# Altium footprint library cSLIM-SA.PcbLib: 21 footprints (part 1 of 2)
Each footprint in its own frame and in the unit in brackets; x right, y up, seen from the top. Pads: shape width x height; smd on the part's side, far side on the other; paste and mask are expansions set on the pad; w line width, h text height; cw(c..) or ccw(c..) is an arc to the next point about the centre after c.
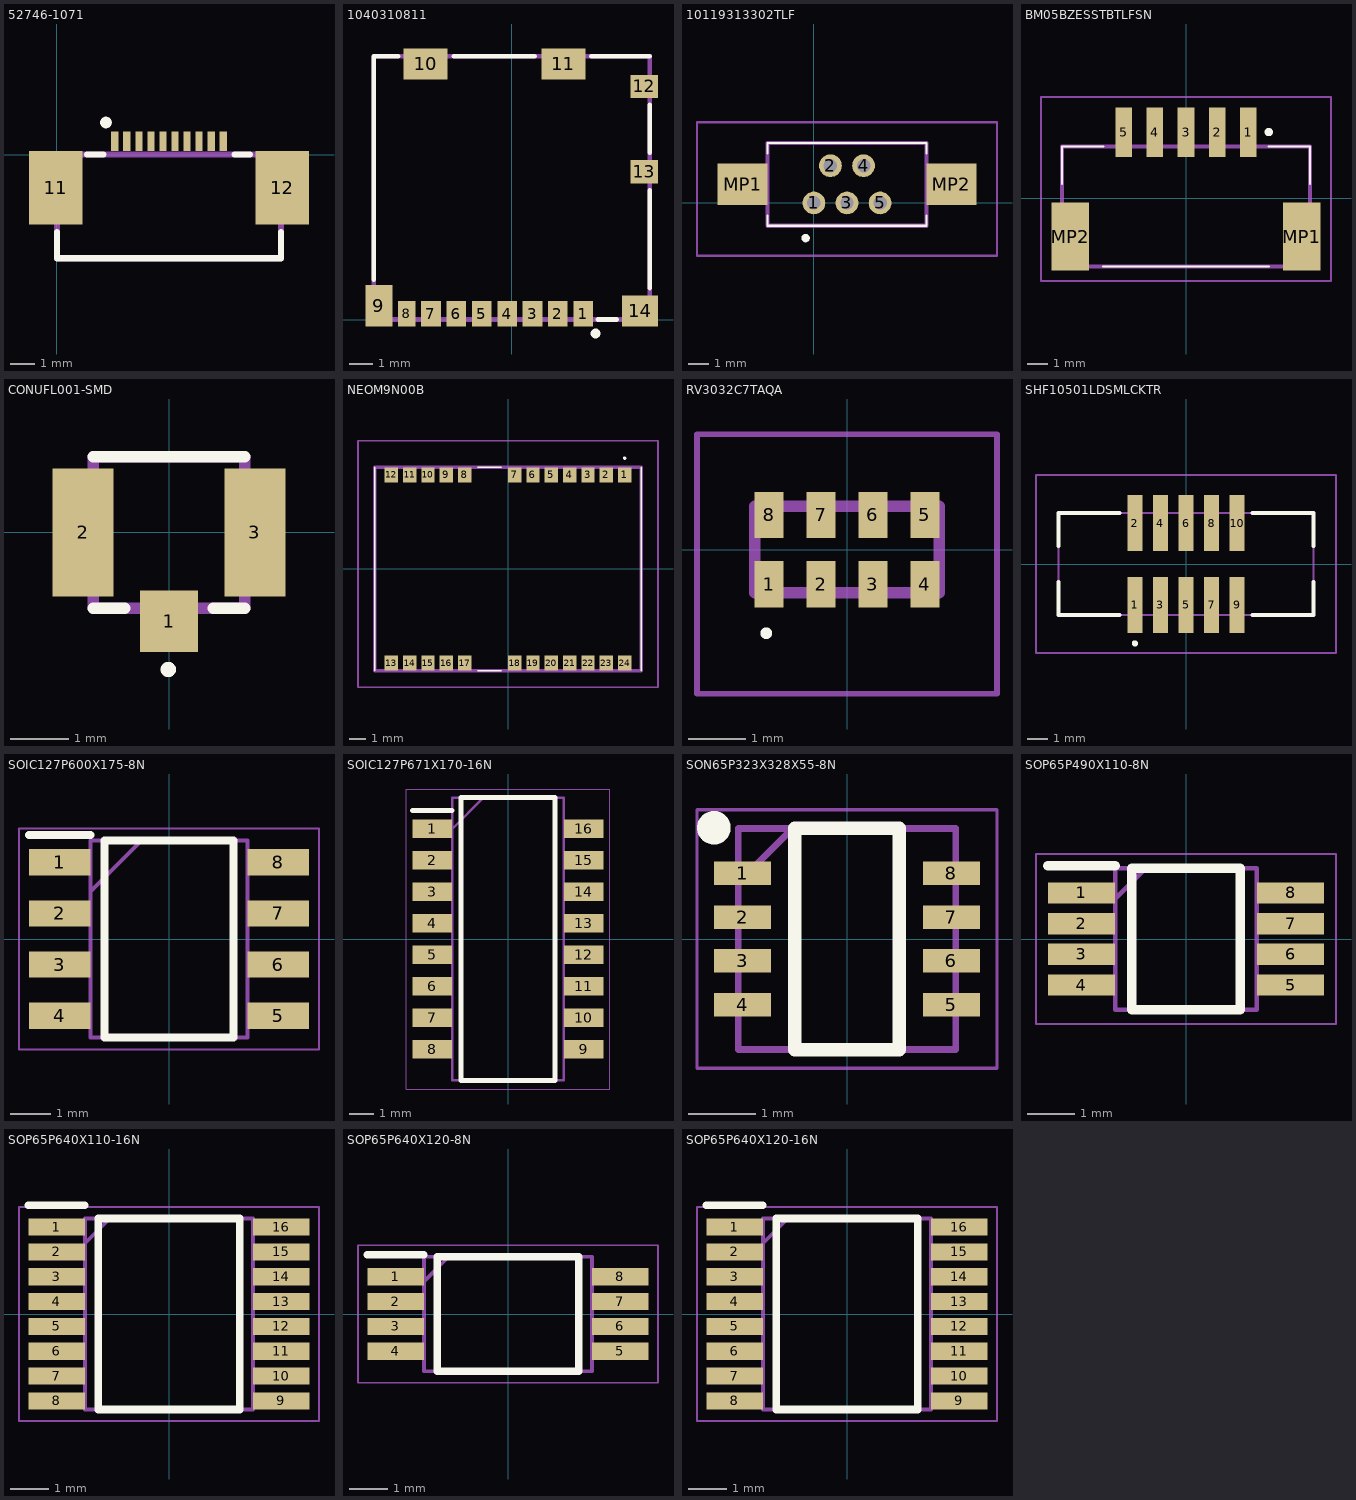
[diagram p0: the footprints below, top view; thin cyan lines are the x and y axes]

## 52746-1071 [mm]
pads (12):
  rect 0.3x0.8 smd: 1(2.4,0.556) 2(2.9,0.556) 3(3.4,0.556) 4(3.9,0.556) 5(4.4,0.556) 6(4.9,0.556) 7(5.4,0.556) 8(5.9,0.556) 9(6.4,0.556) 10(6.9,0.556)
  rect 2.2x3.05 smd: 11(-0.05,-1.369) 12(9.35,-1.369)
Top Overlay:
  circle w0.254: c2.035,1.331 r0.113
  lines w0.254: 0,-3.214 0,-4.3 9.3,-4.3 9.3,-3.214 ; 1.242,0 1.922,0 ; 7.374,0 8.011,0
Mechanical 13:
  lines w0.254: 0,-4.3 0,0 9.3,0 9.3,-4.3 0,-4.3
3D body "52746-1071.stp": height 2, standoff 0, extent -0.87,-5.9 10.23,0.7

## 1040310811 [mm]
pads (14):
  rect 0.85x1.1 smd: 1(3.105,0.25) 2(2.005,0.25) 3(0.905,0.25) 4(-0.195,0.25) 5(-1.295,0.25) 6(-2.395,0.25) 7(-3.495,0.25)
  rect 0.75x1.1 smd: 8(-4.545,0.25)
  rect 1.17x1.8 smd: 9(-5.755,0.6)
  rect 1.9x1.35 smd: 10(-3.73,11.075) 11(2.24,11.075)
  rect 1.2x1 smd: 12(5.74,10.1) 13(5.74,6.4)
  rect 1.55x1.35 smd: 14(5.565,0.375)
Top Overlay:
  circle w0.2: c3.634,-0.605 r0.113
  lines w0.2: -5.975,1.721 -5.975,11.4 -4.914,11.4 ; -2.5,11.4 1,11.4 ; 3.455,11.4 5.975,11.4 ; 3.739,0 4.56,0 ; 5.975,1.367 5.975,5.601 ; 5.975,7.216 5.975,9.297
Mechanical 13:
  lines w0.2: -5.975,0 5.975,0 5.975,11.4 -5.975,11.4 -5.975,0
3D body "104031-0811.stp": height 1.44, standoff -0.01, extent -5.875,0.117 6.075,11.517

## 10119313302TLF [mm]
pads (7):
  round 1.1 hole 0.65: 1(0,0) 2(0.8,1.8) 3(1.6,0) 4(2.4,1.8) 5(3.2,0)
  rect 2.4x2 smd: MP1(-3.45,0.9) MP2(6.65,0.9)
Top Overlay:
  lines w0.1: -2.25,-0.6 -2.25,-1.1 5.45,-1.1 5.45,-0.6 ; -2.25,2.4 -2.25,2.9 5.45,2.9 5.45,2.4
  lines w0.2: -0.5,-1.7 cw(c-0.4,-1.7) -0.3,-1.7 cw(c-0.4,-1.7) -0.5,-1.7
Mechanical 13:
  lines w0.2: -2.25,-1.1 -2.25,2.9 5.45,2.9 5.45,-1.1 -2.25,-1.1
Mechanical 15:
  lines w0.1: -5.65,-2.55 -5.65,3.9 8.85,3.9 8.85,-2.55 -5.65,-2.55
3D body "10119313-302TLF.stp": height 9.65, standoff -5, extent -4.45,-1.1 7.65,2.9

## BM05BZESSTBTLFSN [mm]
pads (7):
  rect 0.8x2.4 smd: 1(3,3.2) 2(1.5,3.2) 3(0,3.2) 4(-1.5,3.2) 5(-3,3.2)
  rect 1.8x3.3 smd: MP1(5.6,-1.85) MP2(-5.6,-1.85)
Top Overlay:
  lines w0.1: -6,0.7 -6,2.5 -4,2.5 ; -4,-3.3 4,-3.3 ; 4,2.5 6,2.5 6,0.7
  lines w0.2: 4,3.1 cw(c4,3.2) 4,3.3 cw(c4,3.2) 4,3.1
Mechanical 13:
  lines w0.2: -6,-3.3 6,-3.3 6,2.5 -6,2.5 -6,-3.3
Mechanical 15:
  lines w0.1: -7,-4 7,-4 7,4.9 -7,4.9 -7,-4
3D body "BM05B-ZESS-TBT__LF__SN_.stp": height 7.6, standoff 0, extent -6.32,-3.32 6.32,4.32

## CONUFL001-SMD [mm]
pads (3):
  rect 1x1.05 smd: 1(0,-1.525)
  rect 1.05x2.2 smd: 2(-1.475,0) 3(1.475,0)
Top Overlay:
  circle w0.2: c-0.013,-2.353 r0.031
  lines w0.2: -1.3,-1.3 -0.761,-1.3 ; -1.3,1.3 1.3,1.3 ; 0.761,-1.3 1.3,-1.3
Mechanical 13:
  lines w0.2: -1.3,-1.3 1.3,-1.3 1.3,1.3 -1.3,1.3 -1.3,-1.3
3D body "CONUFL001-SMD-T.stp": height 1.25, standoff 0, extent -1.499,-1.505 1.499,1.594

## NEOM9N00B [mm]
pads (24):
  rect 0.8x0.9 smd: 1(7,5.65) 2(5.9,5.65) 3(4.8,5.65) 4(3.7,5.65) 5(2.6,5.65) 6(1.5,5.65) 7(0.4,5.65) 8(-2.6,5.65) 9(-3.7,5.65) 10(-4.8,5.65) 11(-5.9,5.65) 12(-7,5.65) 13(-7,-5.65) 14(-5.9,-5.65) 15(-4.8,-5.65) 16(-3.7,-5.65) 17(-2.6,-5.65) 18(0.4,-5.65) 19(1.5,-5.65) 20(2.6,-5.65) 21(3.7,-5.65) 22(4.8,-5.65) 23(5.9,-5.65) 24(7,-5.65)
Top Overlay:
  lines w0.1: -8,-6.1 -8,6.1 ; -1.8,-6.1 -0.4,-6.1 ; -1.8,6.1 -0.4,6.1 ; 8,-6.1 8,6.1 ; 7,6.6 cw(c7,6.65) 7,6.7 cw(c7,6.65) 7,6.6
Mechanical 13:
  lines w0.2: -8,-6.1 -8,6.1 8,6.1 8,-6.1 -8,-6.1
Mechanical 15:
  lines w0.1: -9,-7.1 -9,7.7 9,7.7 9,-7.1 -9,-7.1
3D body "NEO-M9N-00B.stp": height 2.7, standoff 0, extent -8,-6.1 8,6.1

## PCBComponent_1 [mm]

## RV3032C7TAQA [mm]
pads (8):
  rect 0.5x0.8 smd: 1(-1.35,-0.6) 2(-0.45,-0.6) 3(0.45,-0.6) 4(1.35,-0.6) 5(1.35,0.6) 6(0.45,0.6) 7(-0.45,0.6) 8(-1.35,0.6)
Top Overlay:
  lines w0.1: -1.4,-1.5 ccw(c-1.4,-1.45) -1.4,-1.4 ccw(c-1.4,-1.45) -1.4,-1.5
Mechanical 13:
  lines w0.2: -1.6,-0.75 -1.6,0.75 1.6,0.75 1.6,-0.75 -1.6,-0.75
Mechanical 15:
  lines w0.1: -2.6,-2.5 -2.6,2 2.6,2 2.6,-2.5 -2.6,-2.5
3D body "RV-3032-C7-TA-QC.stp": height 0.8, standoff 0, extent -1.6,-0.75 1.6,0.75

## SHF10501LDSMLCKTR [mm]
pads (10):
  rect 0.74x2.795 smd: 1(-2.54,-2.033) 2(-2.54,2.033) 3(-1.27,-2.033) 4(-1.27,2.033) 5(0,-2.033) 6(0,2.033) 7(1.27,-2.033) 8(1.27,2.033) 9(2.54,-2.033) 10(2.54,2.033)
Top Overlay:
  lines w0.2: -6.35,-0.9 -6.35,-2.54 -3.3,-2.54 ; -6.35,0.9 -6.35,2.54 -3.3,2.54 ; 3.3,-2.54 6.35,-2.54 6.35,-0.9 ; 3.3,2.54 6.35,2.54 6.35,0.9 ; -2.54,-4 ccw(c-2.54,-3.95) -2.54,-3.9 ; -2.54,-4 cw(c-2.54,-3.95) -2.54,-3.9 ; -2.54,-4 ccw(c-2.54,-3.95) -2.54,-3.9
Mechanical 13:
  lines w0.1: -6.35,-2.54 6.35,-2.54 6.35,2.54 -6.35,2.54 -6.35,-2.54
Mechanical 15:
  lines w0.1: -7.463,-4.43 7.463,-4.43 7.463,4.43 -7.463,4.43 -7.463,-4.43
3D body "SHF-105-01-L-D-SM-LC-K-TR.stp": height 5.43, standoff -1.7, extent -6.358,-3.357 6.362,3.357

## SOIC127P600X175-8N [mm]
pads (8):
  rect 1.525x0.65 smd: 1(-2.712,1.905) 2(-2.712,0.635) 3(-2.712,-0.635) 4(-2.712,-1.905) 5(2.712,-1.905) 6(2.712,-0.635) 7(2.712,0.635) 8(2.712,1.905)
Top Overlay:
  lines w0.2: -3.475,2.58 -1.95,2.58 ; -1.6,-2.45 1.6,-2.45 1.6,2.45 -1.6,2.45 -1.6,-2.45
Mechanical 13:
  lines w0.1: -1.95,1.18 -0.68,2.45 ; -1.95,-2.45 1.95,-2.45 1.95,2.45 -1.95,2.45 -1.95,-2.45
Mechanical 15:
  lines w0.05: -3.725,-2.75 3.725,-2.75 3.725,2.75 -3.725,2.75 -3.725,-2.75
3D body "MAX3486ESA+.stp": height 1.75, standoff 0, extent -3,-2.45 3,2.45

## SOIC127P671X170-16N [mm]
pads (16):
  rect 1.6x0.75 smd: 1(-3.05,4.445) 2(-3.05,3.175) 3(-3.05,1.905) 4(-3.05,0.635) 5(-3.05,-0.635) 6(-3.05,-1.905) 7(-3.05,-3.175) 8(-3.05,-4.445) 9(3.05,-4.445) 10(3.05,-3.175) 11(3.05,-1.905) 12(3.05,-0.635) 13(3.05,0.635) 14(3.05,1.905) 15(3.05,3.175) 16(3.05,4.445)
Top Overlay:
  lines w0.2: -3.85,5.17 -2.25,5.17 ; -1.9,-5.69 1.9,-5.69 1.9,5.69 -1.9,5.69 -1.9,-5.69
Mechanical 13:
  lines w0.1: -2.25,4.42 -0.98,5.69 ; -2.25,-5.69 2.25,-5.69 2.25,5.69 -2.25,5.69 -2.25,-5.69
Mechanical 15:
  lines w0.05: -4.1,-6.04 4.1,-6.04 4.1,6.04 -4.1,6.04 -4.1,-6.04
3D body "97C08ST.stp": height 1.7, standoff 0, extent -3.355,-5.69 3.355,5.69

## SON65P323X328X55-8N [mm]
pads (8):
  rect 0.85x0.35 smd: 1(-1.55,0.975) 2(-1.55,0.325) 3(-1.55,-0.325) 4(-1.55,-0.975) 5(1.55,-0.975) 6(1.55,-0.325) 7(1.55,0.325) 8(1.55,0.975)
Top Overlay:
  circle w0.25: c-1.975,1.65 r0.125
  lines w0.2: -0.775,-1.64 -0.775,1.64 0.775,1.64 0.775,-1.64 -0.775,-1.64
Mechanical 13:
  lines w0.1: -1.615,0.832 -0.808,1.64 ; -1.615,-1.64 -1.615,1.64 1.615,1.64 1.615,-1.64 -1.615,-1.64
Mechanical 15:
  lines w0.05: -2.225,-1.915 -2.225,1.915 2.225,1.915 2.225,-1.915 -2.225,-1.915
3D body "CY15B108QN-20LPXC.stp": height 0.55, standoff 0, extent -1.665,-1.64 1.665,1.64

## SOP65P490X110-8N [mm]
pads (8):
  rect 1.425x0.45 smd: 1(-2.212,0.975) 2(-2.212,0.325) 3(-2.212,-0.325) 4(-2.212,-0.975) 5(2.212,-0.975) 6(2.212,-0.325) 7(2.212,0.325) 8(2.212,0.975)
Top Overlay:
  lines w0.2: -2.925,1.55 -1.5,1.55 ; -1.15,-1.5 1.15,-1.5 1.15,1.5 -1.15,1.5 -1.15,-1.5
Mechanical 13:
  lines w0.1: -1.5,0.85 -0.85,1.5 ; -1.5,-1.5 1.5,-1.5 1.5,1.5 -1.5,1.5 -1.5,-1.5
Mechanical 15:
  lines w0.05: -3.175,-1.8 3.175,-1.8 3.175,1.8 -3.175,1.8 -3.175,-1.8
3D body "MAX3471EUA+.stp": height 1.1, standoff 0, extent -2.452,-1.5 2.452,1.5

## SOP65P640X110-16N [mm]
pads (16):
  rect 1.475x0.45 smd: 1(-2.938,2.275) 2(-2.938,1.625) 3(-2.938,0.975) 4(-2.938,0.325) 5(-2.938,-0.325) 6(-2.938,-0.975) 7(-2.938,-1.625) 8(-2.938,-2.275) 9(2.938,-2.275) 10(2.938,-1.625) 11(2.938,-0.975) 12(2.938,-0.325) 13(2.938,0.325) 14(2.938,0.975) 15(2.938,1.625) 16(2.938,2.275)
Top Overlay:
  lines w0.2: -3.675,2.85 -2.2,2.85 ; -1.85,-2.5 1.85,-2.5 1.85,2.5 -1.85,2.5 -1.85,-2.5
Mechanical 13:
  lines w0.1: -2.2,1.85 -1.55,2.5 ; -2.2,-2.5 2.2,-2.5 2.2,2.5 -2.2,2.5 -2.2,-2.5
Mechanical 15:
  lines w0.05: -3.925,-2.8 3.925,-2.8 3.925,2.8 -3.925,2.8 -3.925,-2.8
3D body "MAX3221CUE+.stp": height 1.1, standoff 0, extent -3.2,-2.5 3.2,2.5

## SOP65P640X120-8N [mm]
pads (8):
  rect 1.475x0.45 smd: 1(-2.938,0.975) 2(-2.938,0.325) 3(-2.938,-0.325) 4(-2.938,-0.975) 5(2.938,-0.975) 6(2.938,-0.325) 7(2.938,0.325) 8(2.938,0.975)
Top Overlay:
  lines w0.2: -3.675,1.55 -2.2,1.55 ; -1.85,-1.5 -1.85,1.5 1.85,1.5 1.85,-1.5 -1.85,-1.5
Mechanical 13:
  lines w0.1: -2.2,0.85 -1.55,1.5 ; -2.2,-1.5 -2.2,1.5 2.2,1.5 2.2,-1.5 -2.2,-1.5
Mechanical 15:
  lines w0.05: -3.925,-1.8 -3.925,1.8 3.925,1.8 3.925,-1.8 -3.925,-1.8
3D body "TPS2113PWR.stp": height 3.21, standoff -3.21, extent -1.5,-0.675 1.5,0.425

## SOP65P640X120-16N [mm]
pads (16):
  rect 1.475x0.45 smd: 1(-2.938,2.275) 2(-2.938,1.625) 3(-2.938,0.975) 4(-2.938,0.325) 5(-2.938,-0.325) 6(-2.938,-0.975) 7(-2.938,-1.625) 8(-2.938,-2.275) 9(2.938,-2.275) 10(2.938,-1.625) 11(2.938,-0.975) 12(2.938,-0.325) 13(2.938,0.325) 14(2.938,0.975) 15(2.938,1.625) 16(2.938,2.275)
Top Overlay:
  lines w0.2: -3.675,2.85 -2.2,2.85 ; -1.85,-2.5 -1.85,2.5 1.85,2.5 1.85,-2.5 -1.85,-2.5
Mechanical 13:
  lines w0.1: -2.2,1.85 -1.55,2.5 ; -2.2,-2.5 -2.2,2.5 2.2,2.5 2.2,-2.5 -2.2,-2.5
Mechanical 15:
  lines w0.05: -3.925,-2.8 -3.925,2.8 3.925,2.8 3.925,-2.8 -3.925,-2.8
3D body "SN74AVC4T774PWR.stp": height 1.13, standoff 0, extent -3.2,-2.5 3.2,2.5